# Altium footprint library omnetics.PcbLib: 1 footprints
Each footprint in its own frame and in the unit in brackets; x right, y up, seen from the top. Pads: shape width x height; smd on the part's side, far side on the other; paste and mask are expansions set on the pad; w line width, h text height; cw(c..) or ccw(c..) is an arc to the next point about the centre after c.
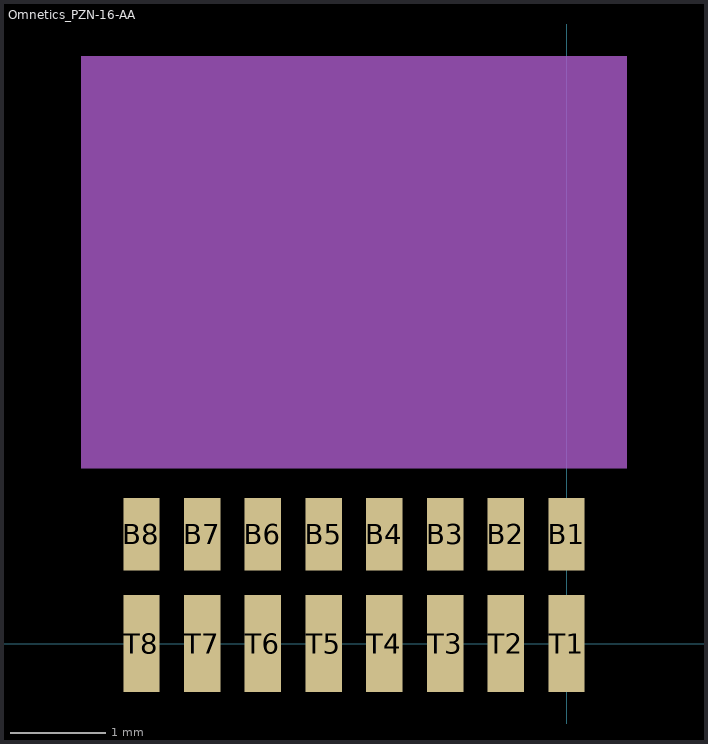
[diagram p0: the footprint, top view; thin cyan lines are the x and y axes]

## Omnetics_PZN-16-AA [mil] "Omnetics PZN-16-AA connector for Intan SPI interface;  Omnetics part number A79633-001"
height 80
pads (16):
  rect 15x30 smd: B1(0,45) B2(-25,45) B3(-50,45) B4(-75,45) B5(-100,45) B6(-125,45) B7(-150,45) B8(-175,45)
  rect 15x40 smd: T1(0,0) T2(-25,0) T3(-50,0) T4(-75,0) T5(-100,0) T6(-125,0) T7(-150,0) T8(-175,0)
Mechanical 1:
  rectangle: -200,72 25,242